# Altium schematic symbol library 732-2028-ND.SchLib: 1 symbol
Pins are listed as number, name and electrical type; pins without a type are passive.

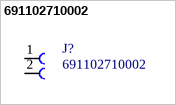
[diagram p0: symbol 691102710002]

## 691102710002
designator J?
Screw terminal 0.33 mmÂ² Number of pins 2 Wuerth Elektronik Blue 1 pc_s_; MF: Wurth Electronics; Availability: Unavailable; MP: 691102710002; SnapEDA_Link: https://www.snapeda.com/parts/691102710002/Wurth%20Electronics%20Inc./view-part/?ref=snap; Price: None; Package: None; Value: *
footprint 691102710002
pins: 1, 2